# Altium integrated library Maxim_Integrated_RF_Low_Noise_Amplifiers.IntLib: 1 symbol
Pins are listed as number, name and electrical type; pins without a type are passive.

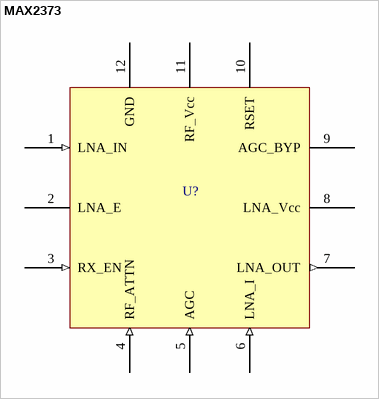
[diagram p0: symbol MAX2373]

## MAX2373
designator U?  (value not drawn)
RF Amplifier LNAs w/Step Attenuator & VGA; Manufacturer: Maxim Integrated; Manufacturer Part Number: MAX2373ETC+; NF - Noise Figure: 1.8 dB; Supply Voltage - Min: 2.65 V; P1dB - Compression Point: 19.5 dBm; Gain: 15.5 dB; Operating Supply Current: 3.5 mA; Operating Frequency: 100 MHz to 1 GHz; Operating Supply Voltage: 2.775 V; Supply Voltage - Max: 3.3 V; Test Frequency: 850 MHz to 940 MHz; OIP3 - Third Order Intercept: 13 dBm; Supplier 1: Mouser; Supplier 2: Digi-Key; Maximum Operating Temperature: + 85 C; Type: LNA with Step Attenuator and VGA; Package / Case: TQFN-EP-12; Datasheet: http://www.mouser.com/ds/2/256/MAX2371-MAX2373-48370.pdf; Supplier Part Number 1: 700-MAX2373ETC+; Supplier Part Number 2: MAX2373ETC+-ND; Package Drawing: http://pdfserv.maximintegrated.com/land_patterns/90-0019.PDF; Package Drawing File: http://pdfserv.maximintegrated.com/package_dwgs/21-0136.PDF
footprint TQFN-EP_12 (12L TQFN PKG 3x3x0.75mm)
pins: 1 LNA_IN (in) "RF Input. Requires DC-blocking capacitor and external matching network.", 2 LNA_E (oe) "LNA Emitter. Connect to GND with an inductor. See inductor value in Table 5.", 3 RX_EN (in) "LNA Control. Set RX_EN high to enable LNA; set RX_EN low to disable LNA.", 4 RF_ATTN (in) "Attenuator Control. Set RF_ATTN high for low-gain mode; set RF_ATTN low for high-gain mode.", 5 AGC (in) "AGC Input Voltage. Set AGC to VCC/2 for maximum gain. Set AGC to VCC - 200mV for minimum gain. If  left unconnected, the LNA will operate at maximum gain and optimum noise figure.", 6 LNA_I (in) "LNA Nominal Bias-Current Setting. Set LNA_I high for high-current mode. Set LNA_I low for low-current  mode. If left unconnected, the default state of the LNA is high-current mode.", 7 LNA_OUT (out) "RF Output Pin. Requires a pullup inductor to LNA_VCC and external matching network.", 8 LNA_Vcc (power) "Supply Voltage for the AGC Amplifier.", 9 AGC_BYP (power) "AGC Bypass. Connect a capacitor to ground. The value of the capacitor is a compromise of AGC  response time and blocker frequency offset.", 10 RSET (power) "External pin for precision resistor to ground to set reference bias current for IC; typical bias current is  50μA to 100μA.", 11 RF_Vcc (power) "Supply Voltage for the LNA. Bypass with a capacitor to GND as close to the pin as possible. Do NOT  connect any tuned circuits to this supply pin.", 12 GND "Ground."